# EAGLE library part ATTINY* (library atmel)
8-bit AVR tiny Microcontroller Status aktiv aktiv aktiv aktiv ATtiny4 ATtiny5 ATtiny9 ATtiny10 General purpose working registers 16 SRAM 32 B Program flash memory 512 B 512 B 1 kB 1 kB 16-bit Timer/Counter 1 USART 1 ADC channels - 4 - 4 ADC resolution - 8 bit - 8 bit AC 1 QTouch channel 1 Watchdog 1 General purpose I/O 4 External interrupts 4 Operating voltage 1.8 ... 5.5 V Speed grade 0 ... 4 MHz @ 1.8 ... 5.5 V 0 ... 8 MHz @ 2.7 ... 5.5 V 0 ... 12 MHz @ 4.5 ... 5.5 V Clock options calibrated internal 8 MHz oscillator internal 128 kHz oscillator external clock input
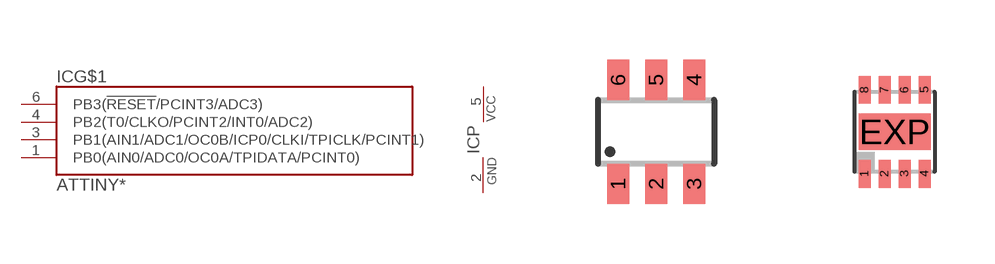
[diagram p67: symbol with the pads of SOT457_R; footprints SOT457_R, DFN8_2X2]

Designator prefix IC; gates P=PWR G$1=TINY10

## ATTINY10-TSU, ATTINY4-TSU, ATTINY5-TSU, ATTINY9-TSU  [SOT457_R]
1  G$1:PB0(AIN0/ADC0/OC0A/TPIDATA/PCINT0)
2  P:GND  pwr
3  G$1:PB1(AIN1/ADC1/OC0B/ICP0/CLKI/TPICLK/PCINT1)
4  G$1:PB2(T0/CLKO/PCINT2/INT0/ADC2)
5  P:VCC  pwr
6  G$1:PB3(!RESET!/PCINT3/ADC3)

## ATTINY10-TSH, ATTINY4-TSH, ATTINY5-TSH, ATTINY9-TSH  [SOT457_R]
Pads as for SOT457_R

## ATTINY10-TSF, ATTINY4-TSF, ATTINY5-TSF, ATTINY9-TSF  [SOT457_R]
Pads as for SOT457_R

## ATTINY10-TS8, ATTINY4-TS8, ATTINY5-TS8, ATTINY9-TS8  [SOT457_R]
Pads as for SOT457_R

## ATTINY10-MHR, ATTINY4-MHR, ATTINY5-MHR, ATTINY9-MHR  [DFN8_2X2]
1  G$1:PB1(AIN1/ADC1/OC0B/ICP0/CLKI/TPICLK/PCINT1)
4  P:GND  pwr
5  G$1:PB0(AIN0/ADC0/OC0A/TPIDATA/PCINT0)
6  G$1:PB3(!RESET!/PCINT3/ADC3)
7  P:VCC  pwr
8  G$1:PB2(T0/CLKO/PCINT2/INT0/ADC2)
EXP  P:GND  pwr

## Footprint SOT457_R (pad centres in mm)
Small outline transistor, reflow soldering, lead pitch 0.95mm EIAJ / JEITA Code: SC-74 ROHM Code: SMT6 Texas Instruments drawing: DBV (R-PDSO-G6) other notations: SC74, SOT23-6, SOT-23-6, SOT23/6, SOT-23/6, SC59-6, SC-59-6, SC59/6, SC-59/6
smd 0.55 x 1: 1 -0.95,-1.3; 2 0,-1.3; 3 0.95,-1.3; 4 0.95,1.3; 5 0,1.3; 6 -0.95,1.3

## Footprint DFN8_2X2 (pad centres in mm)
8-Lead Plastic DFN 2mm x 2mm body, 0.5mm lead pitch, exposed pad ATMEL Code: 8MA4 other notations: UDFN8, USON8
smd 0.3 x 0.7: 1 -0.75,-1.05; 2 -0.25,-1.05; 3 0.25,-1.05; 4 0.75,-1.05; 5 0.75,1.05; 6 0.25,1.05; 7 -0.25,1.05; 8 -0.75,1.05
smd 1.8 x 0.9: EXP 0,0